# EAGLE library part GNIAZDO4 (library mechanika)
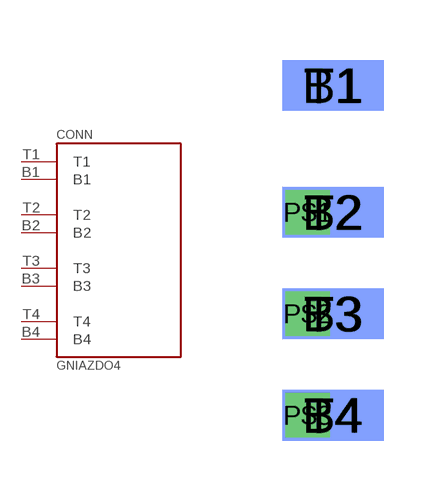
[diagram p1: symbol with the pads of GNIAZDO; footprint GNIAZDO]

Designator prefix CONN

## GNIAZDO4  [GNIAZDO]
B1  B1
B2  B2
B3  B3
B4  B4
T1  T1
T2  T2
T3  T3
T4  T4

## Footprint GNIAZDO (pad centres in mm)
smd 2.54 x 1.27 bottom: B1 0,4.445; B2 0,1.27; B3 0,-1.27; B4 0,-3.81
drill 0.6 square: P$1 -0.635,1.27; P$2 -0.635,-1.27; P$3 -0.635,-3.81
smd 2.54 x 1.27: T1 0,4.445; T2 0,1.27; T3 0,-1.27; T4 0,-3.81